# Altium schematic symbol library CoinCellBatteryHolder.SchLib: 1 symbol
Pins are listed as number, name and electrical type; pins without a type are passive.

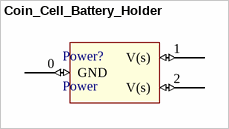
[diagram p0: symbol Coin_Cell_Battery_Holder]

## Coin_Cell_Battery_Holder
designator Power?, comment Power
footprint CR2032_Holder (20" Coin Cell Battery Holder)
pins: 0 GND (io), 1 V(s) (io), 2 V(s) (io)